# Altium schematic symbol library SK14D01G6.SchLib: 1 symbol
Pins are listed as number, name and electrical type; pins without a type are passive.

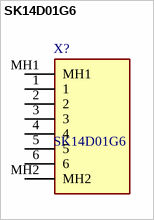
[diagram p0: symbol SK14D01G6]

## SK14D01G6
designator X?
Slide Switches SP4T 0.3 Amp at 30 V; Manufacturer_Name: C & K COMPONENTS; Geometry.Height: 4.7mm; Manufacturer_Part_Number: SK14D01G6; Mouser Part Number: 611-SK-14D01-G6; Mouser Price/Stock: https://www.mouser.co.uk/ProductDetail/CK/SK14D01G6?qs=Gufeu08L%2Fl0F1TW9qwgs0A%3D%3D; Arrow Part Number: SK14D01G6; Arrow Price/Stock: https://www.arrow.com/en/products/sk14d01g6/ck; Datasheet Link: https://www.arrow.com/en/products/sk14d01g6/ck
footprint SK14D01G6
pins: 1, 2, 3, 4, 5, 6, MH1, MH2